# Altium schematic symbol library SCH - ADC - TI ADS131M08 PBS.SCHLIB: 1 symbol
Pins are listed as number, name and electrical type; pins without a type are passive.

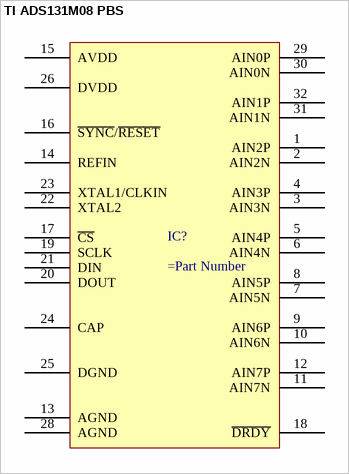
[diagram p0: symbol TI ADS131M08 PBS]

## TI ADS131M08 PBS
designator IC?
pins: 1 AIN2P, 2 AIN2N, 3 AIN3N, 4 AIN3P, 5 AIN4P, 6 AIN4N, 7 AIN5N, 8 AIN5P, 9 AIN6P, 10 AIN6N, 11 AIN7N, 12 AIN7P, 13 AGND, 14 REFIN, 15 AVDD, 16 ~{SYNC}/~{RESET}, 17 ~{CS}, 18 ~{DRDY}, 19 SCLK, 20 DOUT, 21 DIN, 22 XTAL2, 23 XTAL1/CLKIN, 24 CAP, 25 DGND, 26 DVDD, 28 AGND, 29 AIN0P, 30 AIN0N, 31 AIN1N, 32 AIN1P